# EAGLE library part LT1181 (library paparazzi3)
rs232 driver
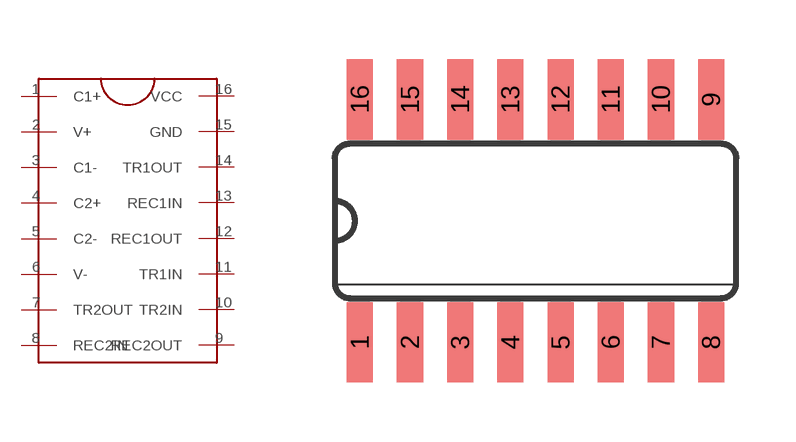
[diagram p11: symbol with the pads of SO16; footprint SO16]

Designator prefix -

## LT1181  [SO16]
1  C1+
2  V+
3  C1-
4  C2+
5  C2-
6  V-
7  TR2OUT
8  REC2IN
9  REC2OUT
10  TR2IN
11  TR1IN
12  REC1OUT
13  REC1IN
14  TR1OUT
15  GND
16  VCC

## Footprint SO16 (pad centres in mm)
Small Outline package 150 mil
smd 0.66 x 2.032: 1 -4.445,-3.073; 2 -3.175,-3.073; 3 -1.905,-3.073; 4 -0.635,-3.073; 5 0.635,-3.073; 6 1.905,-3.073; 7 3.175,-3.073; 8 4.445,-3.073; 9 4.445,3.073; 10 3.175,3.073; 11 1.905,3.073; 12 0.635,3.073; 13 -0.635,3.073; 14 -1.905,3.073; 15 -3.175,3.073; 16 -4.445,3.073